# Altium schematic symbol library MBR2045.SchLib: 1 symbol
Pins are listed as number, name and electrical type; pins without a type are passive.

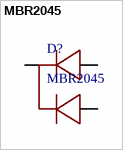
[diagram p0: symbol MBR2045]

## MBR2045
designator D?
Come catod
footprint TO220V
pins: 1, 2, 3